# Altium footprint library PcbLib2.PcbLib: 8 footprints
Each footprint in its own frame and in the unit in brackets; x right, y up, seen from the top. Pads: shape width x height; smd on the part's side, far side on the other; paste and mask are expansions set on the pad; w line width, h text height; cw(c..) or ccw(c..) is an arc to the next point about the centre after c.
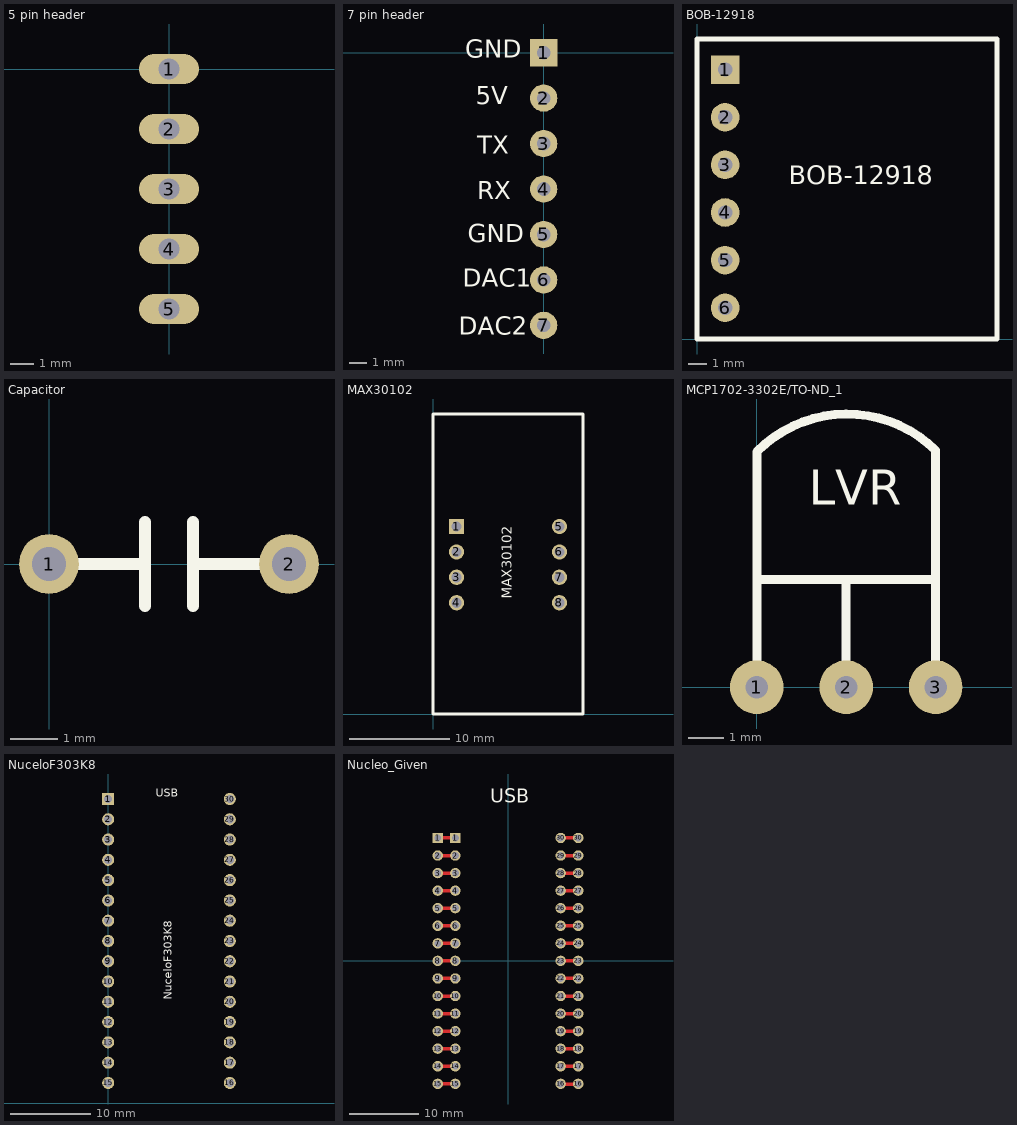
[diagram p0: the footprints below, top view; thin cyan lines are the x and y axes]

## 5 pin header [mm]
pads (5):
  oval 2.54x1.27 hole 0.9: 1(0,0) 2(0,-2.54) 3(0,-5.08) 4(0,-7.62) 5(0,-10.16)

## 7 pin header [mil]
pads (7):
  rect 60x60 hole 30: 1(0,0)
  round 60 hole 30: 2(0,-100) 3(0,-200) 4(0,-300) 5(0,-400) 6(0,-500) 7(0,-600)
Top Overlay:
  text "GND" at -173,-11 h39.37
  text "5V" at -149,-114 h39.37
  text "TX" at -146,-222 h39.37
  text "RX" at -146,-322 h39.37
  text "GND" at -167,-417 h39.37
  text "DAC1" at -178,-515 h39.37
  text "DAC2" at -187,-621 h39.37

## BOB-12918 [mil]
pads (6):
  rect 60x60 hole 30: 1(59.06,565.67)
  round 60 hole 30: 2(59.06,465.67) 3(59.06,365.67) 4(59.06,265.67) 5(59.06,165.67) 6(59.06,65.67)
Top Overlay:
  lines w10: 0,0 629.92,0 629.92,629.92 0,629.92 0,0
  text "BOB-12918" at 192.88,324.96 h39.37

## Capacitor [mil] "200 mil"
pads (2):
  round 50 hole 28: 1(0,0) 2(200,0)
Top Overlay:
  lines w10: 0,0 75,0 ; 80,-35 80,35 ; 120,-35 120,35 ; 120,0 200,0

## MAX30102 [mil]
pads (8):
  rect 60x60 hole 40: 1(92.78,738.19)
  round 60 hole 40: 2(92.78,638.18) 3(92.78,538.18) 4(92.78,438.18) 5(497.78,738.18) 6(497.78,638.18) 7(497.78,538.18) 8(497.78,438.18)
Top Overlay:
  lines w10: 0,0 590.55,0 590.55,1181.1 0,1181.1 0,0
  text "MAX30102" at 310,453 h39.37

## MCP1702-3302E/TO-ND_1 [mil]
pads (3):
  round 60 hole 25: 1(0,0) 2(100,0) 3(200,0)
Top Overlay:
  lines w10: 0,0 0,120.47 ; 100,0 100,119.89 ; 200,0 200,120.47 ; 0,120.47 0,263.16 cw(c100.88,164.04) 200,264.91 200,120.47 ; 0,120.47 200,120.47
  text "LVR" at 58,204 h39.37

## NuceloF303K8 [mil]
pads (30):
  rect 60x60 hole 40: 1(0,1500)
  round 60 hole 40: 2(0,1400) 3(0,1300) 4(0,1200) 5(0,1100) 6(0,1000) 7(0,900) 8(0,800) 9(0,700) 10(0,600) 11(0,500) 12(0,400) 13(0,300) 14(0,200) 15(0,100) 16(600,100) 17(600,200) 18(600,300) 19(600,400) 20(600,500) 21(600,600) 22(600,700) 23(600,800) 24(600,900) 25(600,1000) 26(600,1100) 27(600,1200) 28(600,1300) 29(600,1400) 30(600,1500)
Top Overlay:
  text "USB" at 235.5,1510 h39.37
  text "NuceloF303K8" at 313.09,510 h39.37

## Nucleo_Given [mm] "Nucleo Header"
pads (60):
  rect 1.5x1.5 hole 1: 1(-10.16,17.78) 1(-7.62,17.78)
  round 1.5 hole 1: 2(-10.16,15.24) 2(-7.62,15.24) 3(-10.16,12.7) 3(-7.62,12.7) 4(-10.16,10.16) 4(-7.62,10.16) 5(-10.16,7.62) 5(-7.62,7.62) 6(-10.16,5.08) 6(-7.62,5.08) 7(-10.16,2.54) 7(-7.62,2.54) 8(-10.16,0) 8(-7.62,0) 9(-10.16,-2.54) 9(-7.62,-2.54) 10(-10.16,-5.08) 10(-7.62,-5.08) 11(-10.16,-7.62) 11(-7.62,-7.62) 12(-10.16,-10.16) 12(-7.62,-10.16) 13(-10.16,-12.7) 13(-7.62,-12.7) 14(-10.16,-15.24) 14(-7.62,-15.24) 15(-10.16,-17.78) 15(-7.62,-17.78) 16(7.62,-17.78) 16(10.16,-17.78) 17(7.62,-15.24) 17(10.16,-15.24) 18(7.62,-12.7) 18(10.16,-12.7) 19(7.62,-10.16) 19(10.16,-10.16) 20(7.62,-7.62) 20(10.16,-7.62) 21(7.62,-5.08) 21(10.16,-5.08) 22(7.62,-2.54) 22(10.16,-2.54) 23(7.62,0) 23(10.16,0) 24(7.62,2.54) 24(10.16,2.54) 25(7.62,5.08) 25(10.16,5.08) 26(7.62,7.62) 26(10.16,7.62) 27(7.62,10.16) 27(10.16,10.16) 28(7.62,12.7) 28(10.16,12.7) 29(7.62,15.24) 29(10.16,15.24) 30(7.62,17.78) 30(10.16,17.78)
Top Layer:
  lines w0.508: -10.16,-17.78 -7.62,-17.78 ; -10.16,-15.24 -7.62,-15.24 ; -10.16,-12.7 -7.62,-12.7 ; -10.16,-10.16 -7.62,-10.16 ; -10.16,-7.62 -7.62,-7.62 ; -10.16,-5.08 -7.62,-5.08 ; -10.16,-2.54 -7.62,-2.54 ; -10.16,0 -7.62,0 ; -10.16,2.54 -7.62,2.54 ; -10.16,5.08 -7.62,5.08 ; -10.16,7.62 -7.62,7.62 ; -10.16,10.16 -7.62,10.16 ; -10.16,12.7 -7.62,12.7 ; -10.16,15.24 -7.62,15.24 ; -10.16,17.78 -7.62,17.78 ; 7.442,-15.265 9.982,-15.265 ; 7.62,-12.7 10.16,-12.7 ; 7.62,-10.16 10.16,-10.16 ; 7.62,-7.62 10.16,-7.62 ; 7.62,-5.08 10.16,-5.08 ; 7.62,-2.54 10.16,-2.54 ; 7.62,0 10.16,0 ; 7.62,2.54 10.16,2.54 ; 7.62,5.08 10.16,5.08 ; 7.62,7.62 10.16,7.62 ; 7.62,10.16 10.16,10.16 ; 7.62,12.7 10.16,12.7 ; 7.62,15.24 10.16,15.24 ; 7.62,17.78 10.16,17.78 ; 7.722,-17.831 10.262,-17.831
Top Overlay:
  text "USB" at -2.54,22.86 h2
  text "." at -10.16,20.32 h5.08